# Altium schematic symbol library S8411-45R.SchLib: 1 symbol
Pins are listed as number, name and electrical type; pins without a type are passive.

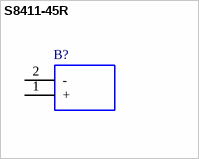
[diagram p0: symbol S8411-45R]

## S8411-45R
designator B?
HARWIN - S8411-45R - HOLDER, COIN CELL, CR1220, FULL REEL; Mouser Part Number: 855-S8411-45R; Mouser Price/Stock: https://www.mouser.co.uk/ProductDetail/Harwin/S8411-45R?qs=Qom7kyPojXY6B0JhnWxDgQ%3D%3D; Manufacturer_Name: Harwin; Manufacturer_Part_Number: S8411-45R; Datasheet Link: https://cdn.harwin.com/pdfs/S8411R.pdf
footprint S8411-45R_1
pins: 1 +, 2 -